# Altium footprint library RECEPTOR_AIS_R00.PcbLib: 42 footprints (part 2 of 3)
Each footprint in its own frame and in the unit in brackets; x right, y up, seen from the top. Pads: shape width x height; smd on the part's side, far side on the other; paste and mask are expansions set on the pad; w line width, h text height; cw(c..) or ccw(c..) is an arc to the next point about the centre after c.
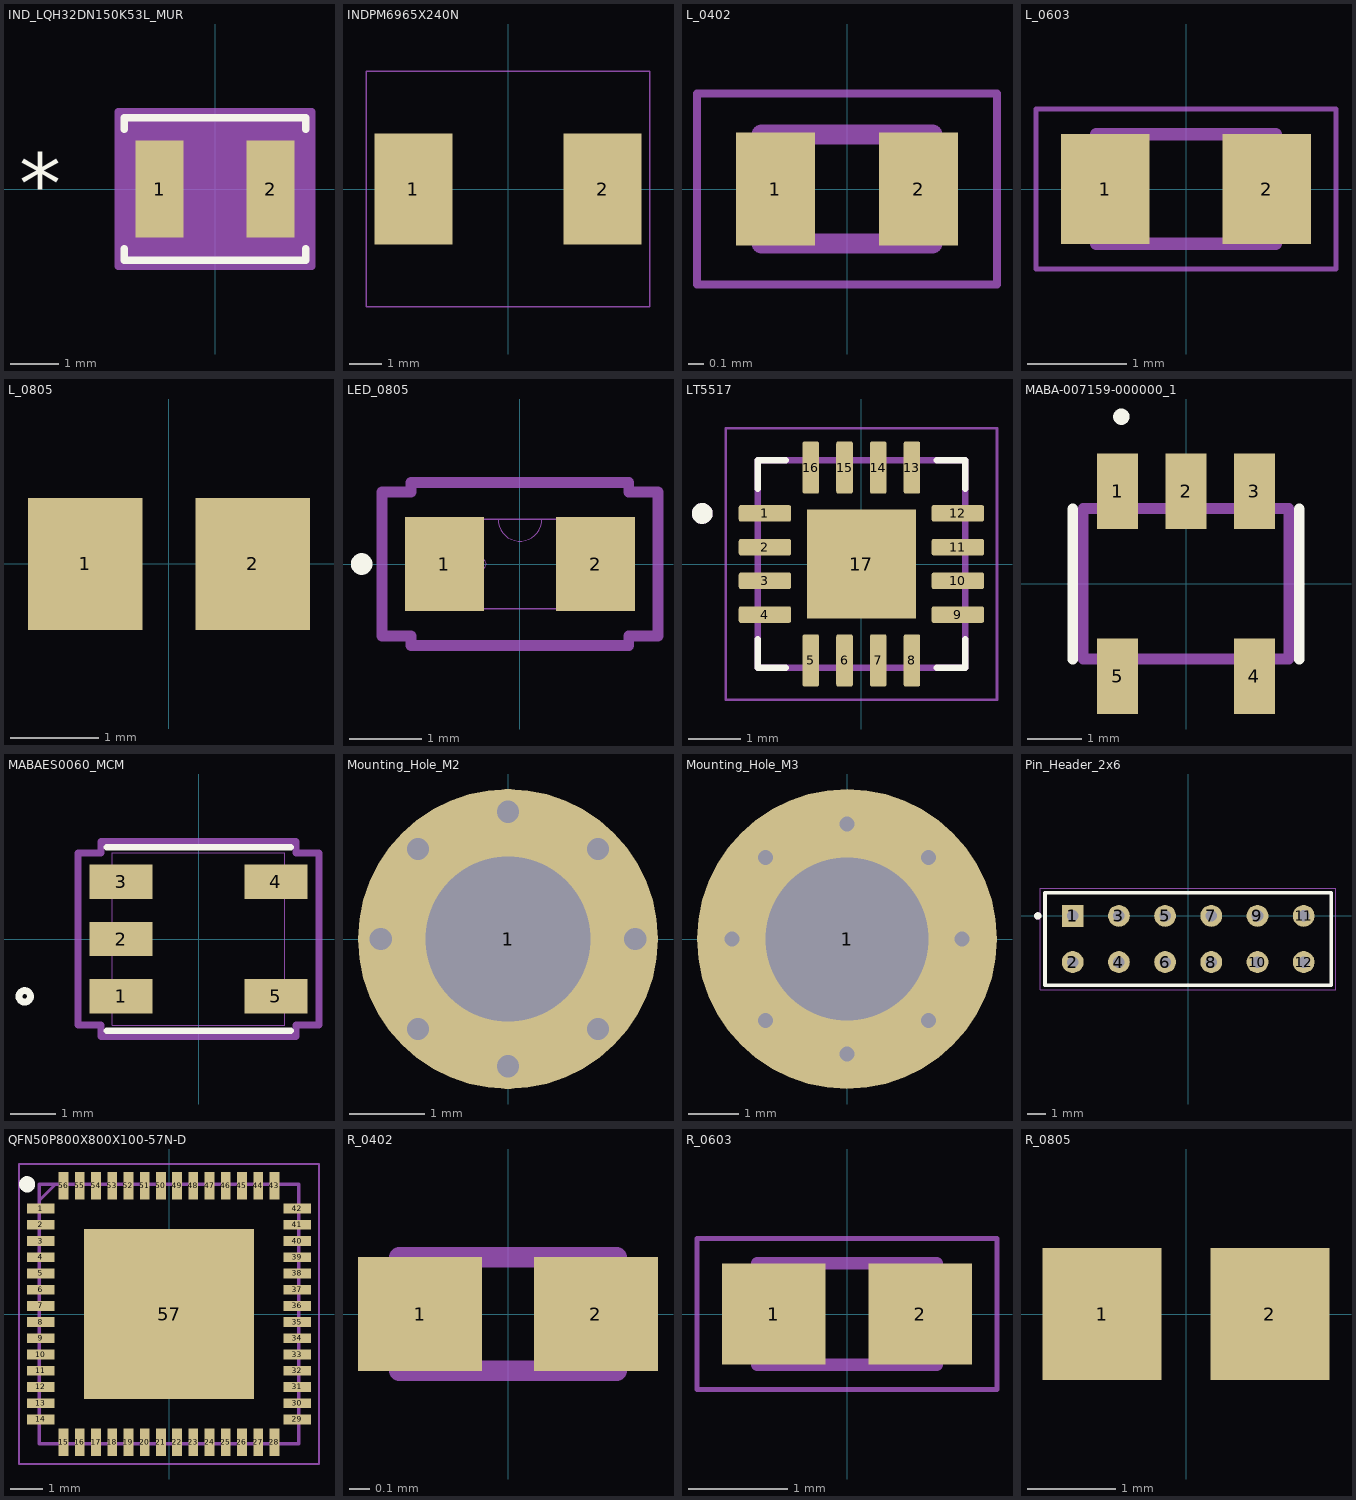
[diagram p1: the footprints below, top view; thin cyan lines are the x and y axes]

## IND_LQH32DN150K53L_MUR [mil]
pads (2):
  rect 39x79 smd paste+0 mask+0: 1(-45.28,0) 2(45.28,0)
Top Overlay:
  lines w6: -74,-48.8 -74,-58 74,-58 74,-48.8 ; -74,48.8 -74,58 74,58 74,48.8
  text "*" at -160,-20 h50
Top 3D Body (Mech13):
  lines w1: -69,-53 -69,53 69,53 69,-53 -69,-53
  text "*" at -31.5,-25 h50
Top Courtyard (Mech15):
  region: -74.78,-63 -79,-63 -79,63 79,63 79,-63 74.78,-63
  lines w6: -79,-63 -74.78,-63 74.78,-63 79,-63 79,63 -79,63 -79,-63

## INDPM6965X240N [mm]
pads (2):
  rect 2.4x3.4 smd: 1(-2.9,0) 2(2.9,0)
Top Courtyard (Mech15):
  lines w0.05: -4.35,-3.612 -4.35,3.612 4.35,3.612 4.35,-3.612 -4.35,-3.612
3D body "IHLP2525CZ.step": height 2.9, standoff 0.01, extent -3.513,-3.327 3.564,3.343

## L_0402 [mm]
pads (2):
  rect 0.51x0.73 smd: 1(-0.46,0) 2(0.46,0)
Top 3D Body (Mech13):
  lines w0.127: -0.55,-0.35 0.55,-0.35 0.55,0.35 -0.55,0.35 -0.55,-0.35
Top Courtyard (Mech15):
  lines w0.05: -0.965,-0.615 0.965,-0.615 0.965,0.615 -0.965,0.615 -0.965,-0.615
3D body "INDC1006X60N.step": height 0.6, standoff 0, extent -0.5,-0.3 0.5,0.3

## L_0603 [mm]
pads (2):
  rect 0.89x1.11 smd: 1(-0.814,0) 2(0.814,0)
Top 3D Body (Mech13):
  lines w0.127: -0.9,-0.55 0.9,-0.55 0.9,0.55 -0.9,0.55 -0.9,-0.55
Top Courtyard (Mech15):
  lines w0.05: -1.508,-0.805 1.508,-0.805 1.508,0.805 -1.508,0.805 -1.508,-0.805
3D body "INDC1608X100N.step": height 1, standoff 0, extent -0.8,-0.4 0.8,0.4

## L_0805 [mm] "Chip Inductor, 2-Leads, Body 2.00x1.25mm"
height 1.1
pads (2):
  rect 1.3x1.5 smd: 1(-0.95,0) 2(0.95,0)
3D body "L0805C100MDWLT.STEP": height 1.45, standoff 0, extent -1,-0.625 1,0.625

## LED_0805 [mm]
pads (2):
  rect 1.1x1.3 smd mask+0.1: 1(-1.05,0) 2(1.05,0)
Top Overlay:
  circle w0.2: c-2.2,0 r0.05
Top 3D Body (Mech13):
  circle w0: c-0.546,0 r0.076
  lines w0: -0.305,0.622 ccw(c0,0.622) 0.305,0.622
  lines w0.025: -1.003,-0.622 1.003,-0.622 1.003,0.622 -1.003,0.622 -1.003,-0.622
Top Courtyard (Mech15):
  lines w0.152: -1.918,-1.003 -1.918,1.003 -1.511,1.003 -1.511,1.13 1.511,1.13 1.511,1.003 1.918,1.003 1.918,-1.003 1.511,-1.003 1.511,-1.13 -1.511,-1.13 -1.511,-1.003 -1.918,-1.003
3D body "LED_LTST-C171_LTO.step": height 0.81, standoff 0, extent -1.003,-0.622 1.003,0.622

## LT5517 [mm]
pads (17):
  rrect25% 1.01x0.32 smd paste+0 mask+0.102: 1(-1.86,0.975) 2(-1.86,0.325) 3(-1.86,-0.325) 4(-1.86,-0.975) 9(1.86,-0.975) 10(1.86,-0.325) 11(1.86,0.325) 12(1.86,0.975)
  rrect25% 0.32x1.01 smd paste+0 mask+0.102: 5(-0.975,-1.86) 6(-0.325,-1.86) 7(0.325,-1.86) 8(0.975,-1.86) 13(0.975,1.86) 14(0.325,1.86) 15(-0.325,1.86) 16(-0.975,1.86)
  rect 2.1x2.1 smd paste-2 mask+0.102: 17(0,0)
Top Overlay:
  circle w0.2: c-3.07,0.975 r0.1
  lines w0.127: -2,-1.455 -2,-2 -1.455,-2 ; -2,1.455 -2,2 -1.455,2 ; 1.455,-2 2,-2 2,-1.455 ; 1.455,2 2,2 2,1.455
Top Paste:
  region: 0.79,0.13 0.13,0.13 0.13,0.79 0.79,0.79
  region: -0.13,0.13 -0.79,0.13 -0.79,0.79 -0.13,0.79
  region: -0.13,-0.79 -0.79,-0.79 -0.79,-0.13 -0.13,-0.13
  region: 0.79,-0.79 0.13,-0.79 0.13,-0.13 0.79,-0.13
Top 3D Body (Mech13):
  circle w0.2: c-3.07,0.975 r0.1
  lines w0.127: -2,-2 2,-2 2,2 -2,2 -2,-2
Top Courtyard (Mech15):
  lines w0.05: -2.615,-2.615 2.615,-2.615 2.615,2.615 -2.615,2.615 -2.615,-2.615
3D body "LT5517EUF#PBF.STEP": height 0.8, standoff 0, extent -2,-2 2,2

## MABA-007159-000000_1 [mm]
pads (5):
  rect 0.76x1.4 smd: 1(-1.27,1.715) 2(0,1.715) 3(1.27,1.715) 4(1.27,-1.715) 5(-1.27,-1.715)
Top Overlay:
  circle w0.2: c-1.2,3.1 r0.051
  lines w0.2: -2.1,-1.4 -2.1,1.39 ; 2.1,-1.4 2.1,1.39
Top 3D Body (Mech13):
  lines w0.2: -1.905,-1.395 -1.905,1.395 1.905,1.395 1.905,-1.395 -1.905,-1.395
3D body "MABA-007159-000000.stp": height 2.6, standoff 0, extent -1.91,-1.905 1.91,1.905

## MABAES0060_MCM [mil]
pads (5):
  rect 55x30 smd paste-15 mask+0: 1(-67.5,-50) 2(-67.5,0) 3(-67.5,50) 4(67.5,50) 5(67.5,-50)
Top Overlay:
  circle w6: c-151.5,-50 r5
  lines w6: -80,-80 80,-80 ; -80,80 80,80
Top 3D Body (Mech13):
  lines w1: -75,-75 75,-75 75,75 -75,75 -75,-75
Top Courtyard (Mech15):
  lines w6: -105,-75 -105,75 -85,75 -85,85 85,85 85,75 105,75 105,-75 85,-75 85,-85 -85,-85 -85,-75 -105,-75
3D body "MABAES0060.STEP": height 105, standoff 0, extent -75,-75 75,75

## Mounting_Hole_M2 [mm]
pads (1):
  round 4 hole 2.2 paste-2539.97: 1(0,0)
via 1.2,1.2 diameter 0.6 hole 0.3
via -1.2,1.2 diameter 0.6 hole 0.3
via 0,-1.7 diameter 0.6 hole 0.3
via 1.2,-1.2 diameter 0.6 hole 0.3
via -1.2,-1.2 diameter 0.6 hole 0.3
via -1.7,0 diameter 0.6 hole 0.3
via 0,1.7 diameter 0.6 hole 0.3
via 1.7,0 diameter 0.6 hole 0.3

## Mounting_Hole_M3 [mm]
pads (1):
  round 6 hole 3.25 paste-2539.97: 1(0,0)
via -1.626,-1.626 diameter 0.6 hole 0.3
via 1.626,-1.626 diameter 0.6 hole 0.3
via -1.626,1.626 diameter 0.6 hole 0.3
via 1.626,1.626 diameter 0.6 hole 0.3
via 0,-2.3 diameter 0.6 hole 0.3
via -2.3,0 diameter 0.6 hole 0.3
via 0,2.3 diameter 0.6 hole 0.3
via 2.3,0 diameter 0.6 hole 0.3

## Pin_Header_2x6 [mm]
pads (12):
  rect 1.2x1.2 / inner round 1.2 / far side rect 1.2x1.2 hole 0.635: 1(-6.35,0)
  round 1.2 hole 0.635: 2(-6.35,-2.54) 3(-3.81,0) 4(-3.81,-2.54) 5(-1.27,0) 6(-1.27,-2.54) 7(1.27,0) 8(1.27,-2.54) 9(3.81,0) 10(3.81,-2.54) 11(6.35,0) 12(6.35,-2.54)
Top Overlay:
  circle w0.2: c-8.27,0 r0.1
  lines w0.2: -7.874,-3.81 7.874,-3.81 7.874,1.27 -7.874,1.27 -7.874,-3.81
Top 3D Body (Mech13):
  circle w0.2: c-8.27,0 r0.1
  lines w0.1: -7.62,1.27 7.62,1.27 ; -7.874,-3.81 7.874,-3.81 7.874,1.27 -7.874,1.27 -7.874,-3.81
Top Courtyard (Mech15):
  lines w0.05: -8.128,-4.064 8.128,-4.064 8.128,1.52 -8.128,1.52 -8.128,-4.064
3D body "PPPC062LFBN-RC.STEP": height 8.51, standoff -3.2, extent -7.874,-3.81 7.874,1.27

## QFN50P800X800X100-57N-D [mm]
pads (57):
  rect 0.85x0.3 smd: 1(-3.95,3.25) 2(-3.95,2.75) 3(-3.95,2.25) 4(-3.95,1.75) 5(-3.95,1.25) 6(-3.95,0.75) 7(-3.95,0.25) 8(-3.95,-0.25) 9(-3.95,-0.75) 10(-3.95,-1.25) 11(-3.95,-1.75) 12(-3.95,-2.25) 13(-3.95,-2.75) 14(-3.95,-3.25) 29(3.95,-3.25) 30(3.95,-2.75) 31(3.95,-2.25) 32(3.95,-1.75) 33(3.95,-1.25) 34(3.95,-0.75) 35(3.95,-0.25) 36(3.95,0.25) 37(3.95,0.75) 38(3.95,1.25) 39(3.95,1.75) 40(3.95,2.25) 41(3.95,2.75) 42(3.95,3.25)
  rect 0.3x0.85 smd: 15(-3.25,-3.95) 16(-2.75,-3.95) 17(-2.25,-3.95) 18(-1.75,-3.95) 19(-1.25,-3.95) 20(-0.75,-3.95) 21(-0.25,-3.95) 22(0.25,-3.95) 23(0.75,-3.95) 24(1.25,-3.95) 25(1.75,-3.95) 26(2.25,-3.95) 27(2.75,-3.95) 28(3.25,-3.95) 43(3.25,3.95) 44(2.75,3.95) 45(2.25,3.95) 46(1.75,3.95) 47(1.25,3.95) 48(0.75,3.95) 49(0.25,3.95) 50(-0.25,3.95) 51(-0.75,3.95) 52(-1.25,3.95) 53(-1.75,3.95) 54(-2.25,3.95) 55(-2.75,3.95) 56(-3.25,3.95)
  rect 5.25x5.25 smd: 57(0,0)
Top Overlay:
  circle w0.25: c-4.375,4 r0.125
Top 3D Body (Mech13):
  lines w0.1: -4,3.5 -3.5,4 ; -4,-4 -4,4 4,4 4,-4 -4,-4
Top Courtyard (Mech15):
  lines w0.05: -4.625,-4.625 -4.625,4.625 4.625,4.625 4.625,-4.625 -4.625,-4.625
3D body "ADRF6850BCPZ.stp": height 1, standoff 0, extent -4.05,-4.05 4.05,4.05

## R_0402 [mm] "Chip Resistor, 2-Leads, Body 1.00x0.50mm, IPC Medium Density"
height 0.4
pads (2):
  rect 0.6x0.55 smd mask+0.076: 1(-0.425,0) 2(0.425,0)
Top 3D Body (Mech13):
  lines w0.1: -0.525,-0.275 0.525,-0.275 0.525,0.275 -0.525,0.275 -0.525,-0.275
3D body: height 0.4, standoff 0, extent 0.275,-0.275 0.525,0.275
3D body: height 0.4, standoff 0, extent -0.525,-0.275 -0.275,0.275
3D body: height 0.4, standoff 0, extent -0.275,-0.275 0.275,0.275

## R_0603 [mm]
pads (2):
  rect 1.04x1.02 smd: 1(-0.735,0) 2(0.735,0)
Top 3D Body (Mech13):
  lines w0.127: -0.9,-0.51 0.9,-0.51 0.9,0.51 -0.9,0.51 -0.9,-0.51
Top Courtyard (Mech15):
  lines w0.05: -1.508,-0.761 1.508,-0.761 1.508,0.761 -1.508,0.761 -1.508,-0.761
3D body "step_temp.STEP": height 0.55, standoff 0, extent -0.8,-0.4 0.8,0.4

## R_0805 [mm] "Chip Resistor, 2-Leads, Body 2.00x1.25mm, IPC Low Density"
height 0.65
pads (2):
  rect 1.35x1.5 smd: 1(-0.95,0) 2(0.95,0)
3D body "User Library-CR2012-0805.STEP": height 0.6, standoff 0, extent -1,-0.625 1,0.625